# Altium schematic symbol library SCH - POWER - LINEAR VREG - TI TPS75901KC.SchLib: 1 symbol
Pins are listed as number, name and electrical type; pins without a type are passive.

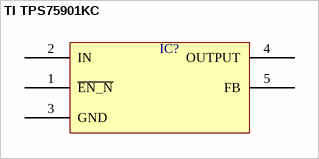
[diagram p0: symbol TI TPS75901KC]

## TI TPS75901KC
designator IC?  (value not drawn)
pins: 1 ~{EN_N}, 2 IN, 3 GND, 4 OUTPUT, 5 FB